# Altium footprint library CAP-1u-0805.PcbLib: 1 footprints
Each footprint in its own frame and in the unit in brackets; x right, y up, seen from the top. Pads: shape width x height; smd on the part's side, far side on the other; paste and mask are expansions set on the pad; w line width, h text height; cw(c..) or ccw(c..) is an arc to the next point about the centre after c.
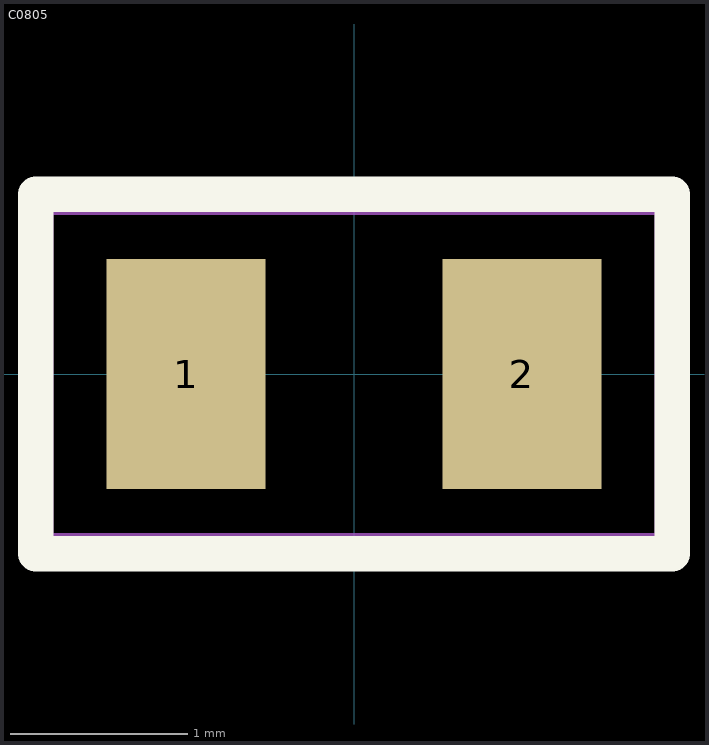
[diagram p0: the footprint, top view; thin cyan lines are the x and y axes]

## C0805 [mm]
pads (2):
  rect 0.9x1.3 smd: 1(-0.95,0) 2(0.95,0)
Top Overlay:
  lines w0.2: -1.8,-1.016 -1.8,1.016 1.8,1.016 1.8,-1.016 -1.8,-1.016
Mechanical 29:
  lines w0.2: -1.8,-1 1.8,-1 1.8,1 -1.8,1 -1.8,-1
  text ".Designator" at -0.718,-0.399 h0.76
3D body "CAPC2012X145N EIA 0805.step": height 1.46, standoff 0.01, extent -0.993,-0.599 1.007,0.601